# EAGLE library part ESP-WROVER (library ESP32Wrover)
Resource : https://github.com/dnksavaliya/LearnElectronics/tree/master/ESP-EagleLibrary ESP8285-M1 Designed by Dnksavaliya & Aashish Agravat
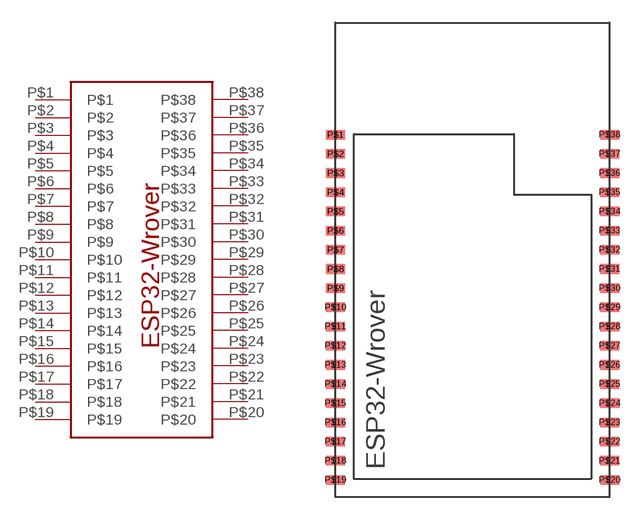
[diagram p0: symbol with the pads of ESP-WROVER; footprint ESP-WROVER]

Designator prefix -

## ESP-WROVER  [ESP-WROVER]
P$1  P$1
P$2  P$2
P$3  P$3
P$4  P$4
P$5  P$5
P$6  P$6
P$7  P$7
P$8  P$8
P$9  P$9
P$10  P$10
P$11  P$11
P$12  P$12
P$13  P$13
P$14  P$14
P$15  P$15
P$16  P$16
P$17  P$17
P$18  P$18
P$19  P$19
P$20  P$20
P$21  P$21
P$22  P$22
P$23  P$23
P$24  P$24
P$25  P$25
P$26  P$26
P$27  P$27
P$28  P$28
P$29  P$29
P$30  P$30
P$31  P$31
P$32  P$32
P$33  P$33
P$34  P$34
P$35  P$35
P$36  P$36
P$37  P$37
P$38  P$38

## Footprint ESP-WROVER (pad centres in mm)
Resource : https://github.com/dnksavaliya/LearnElectronics/tree/master/ESP-EagleLibrary ESP8285-M1 Designed by Dnksavaliya & Aashish Agravat
smd 1.27 x 0.635: P$1 0.01,23.98; P$2 0.01,22.71; P$3 0.01,21.44; P$4 0.01,20.17; P$5 0.01,18.9; P$6 0.01,17.63; P$7 0.01,16.36; P$8 0.01,15.09; P$9 0.01,13.82; P$10 0.01,12.55; P$11 0.01,11.28; P$12 0.01,10.01; P$13 0.01,8.74; P$14 0.01,7.47; P$15 0.01,6.2; P$16 0.01,4.93; P$17 0.01,3.66; P$18 0.01,2.39; P$19 0.01,1.12; P$20 18.16,1.12; P$21 18.16,2.39; P$22 18.16,3.66; P$23 18.16,4.93; P$24 18.16,6.2; P$25 18.16,7.47; P$26 18.16,8.74; P$27 18.16,10.01; P$28 18.16,11.28; P$29 18.16,12.55; P$30 18.16,13.82; P$31 18.16,15.09; P$32 18.16,16.36; P$33 18.16,17.63; P$34 18.16,18.9; P$35 18.16,20.17; P$36 18.16,21.44; P$37 18.16,22.71; P$38 18.16,23.98